# EAGLE library part 62103221821 (library Wurth_Elektronik2)
WR-PHD 2.00mm Dual SMT Socket Header Low Profile, 32 Pins=>Code : Con_BTB_SHD_2.00_2_62103221821 <http://katalog.we-online.de/media/thumbs2/eican/thb_Con_BTB_SHD_2.00_2_6210xx21821_pf2.jpg> Details see: http://katalog.we-online.de/en/em/621_0xx_218_21 Created 2014-06-03, Karrer Zheng 2014 (C) Würth Elektronik
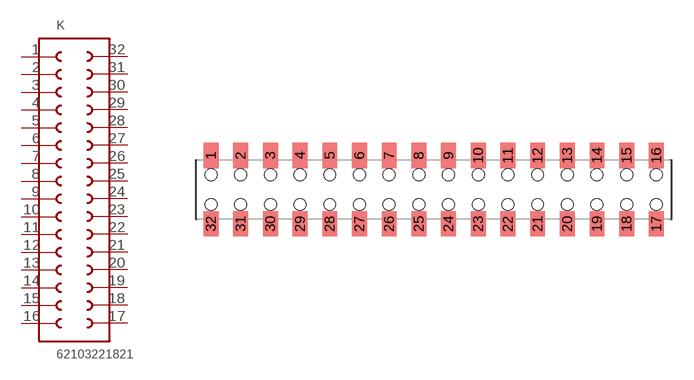
[diagram p282: symbol with the pads of 62103221821; footprint 62103221821]

Designator prefix K

## 62103221821  [62103221821]
1  1  pas
2  2  pas
3  3  pas
4  4  pas
5  5  pas
6  6  pas
7  7  pas
8  8  pas
9  9  pas
10  10  pas
11  11  pas
12  12  pas
13  13  pas
14  14  pas
15  15  pas
16  16  pas
17  17  pas
18  18  pas
19  19  pas
20  20  pas
21  21  pas
22  22  pas
23  23  pas
24  24  pas
25  25  pas
26  26  pas
27  27  pas
28  28  pas
29  29  pas
30  30  pas
31  31  pas
32  32  pas

## Footprint 62103221821 (pad centres in mm)
WR-PHD 2.00mm Dual SMT Socket Header Low Profile, 32 Pins
smd 1 x 1.7: 1 -16,2.3; 2 -14,2.3; 3 -12,2.3; 4 -10,2.3; 5 -8,2.3; 6 -6,2.3; 7 -4,2.3; 8 -2,2.3; 9 0,2.3; 10 2,2.3; 11 4,2.3; 12 6,2.3; 13 8,2.3; 14 10,2.3; 15 12,2.3; 16 14,2.3; 17 14,-2.3; 18 12,-2.3; 19 10,-2.3; 20 8,-2.3; 21 6,-2.3; 22 4,-2.3; 23 2,-2.3; 24 0,-2.3; 25 -2,-2.3; 26 -4,-2.3; 27 -6,-2.3; 28 -8,-2.3; 29 -10,-2.3; 30 -12,-2.3; 31 -14,-2.3; 32 -16,-2.3
hole 0.8 at -14,1
hole 0.8 at -16,1
hole 0.8 at -16,-1
hole 0.8 at -14,-1
hole 0.8 at -12,1
hole 0.8 at -12,-1
hole 0.8 at -10,1
hole 0.8 at -8,1
hole 0.8 at -6,1
hole 0.8 at -4,1
hole 0.8 at -4,-1
hole 0.8 at -6,-1
hole 0.8 at -8,-1
hole 0.8 at -10,-1
hole 0.8 at -2,1
hole 0.8 at 0,1
hole 0.8 at 2,1
hole 0.8 at -2,-1
hole 0.8 at 0,-1
hole 0.8 at 2,-1
hole 0.8 at 4,1
hole 0.8 at 6,1
hole 0.8 at 6,-1
hole 0.8 at 4,-1
hole 0.8 at 8,1
hole 0.8 at 10,1
hole 0.8 at 12,1
hole 0.8 at 14,1
hole 0.8 at 14,-1
hole 0.8 at 12,-1
hole 0.8 at 10,-1
hole 0.8 at 8,-1